# EAGLE library part HEADER2X13-2.54-SMD (library Deegou_Connector)
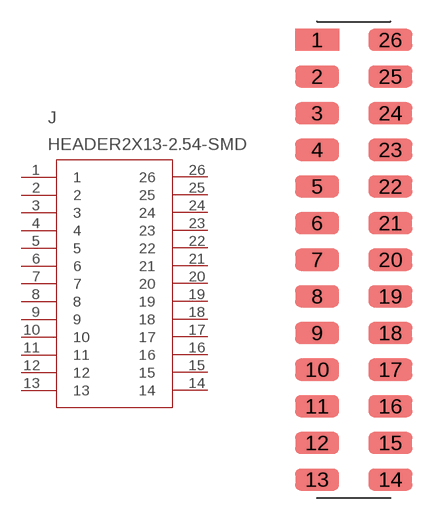
[diagram p27: symbol with the pads of 2X13P-2.54-SMD; footprint 2X13P-2.54-SMD]

Designator prefix J

## HEADER2X13-2.54-SMD  [2X13P-2.54-SMD]
1  1
2  2
3  3
4  4
5  5
6  6
7  7
8  8
9  9
10  10
11  11
12  12
13  13
14  14
15  15
16  16
17  17
18  18
19  19
20  20
21  21
22  22
23  23
24  24
25  25
26  26

## Footprint 2X13P-2.54-SMD (pad centres in mm)
smd 3.048 x 1.524: 1 -2.54,15.24; 2 -2.54,12.7; 3 -2.54,10.16; 4 -2.54,7.62; 5 -2.54,5.08; 6 -2.54,2.54; 7 -2.54,0; 8 -2.54,-2.54; 9 -2.54,-5.08; 10 -2.54,-7.62; 11 -2.54,-10.16; 12 -2.54,-12.7; 13 -2.54,-15.24; 14 2.54,-15.24; 15 2.54,-12.7; 16 2.54,-10.16; 17 2.54,-7.62; 18 2.54,-5.08; 19 2.54,-2.54; 20 2.54,0; 21 2.54,2.54; 22 2.54,5.08; 23 2.54,7.62; 24 2.54,10.16; 25 2.54,12.7; 26 2.54,15.24